# Altium schematic symbol library MGM240PB32VNA3.SchLib: 1 symbol
Pins are listed as number, name and electrical type; pins without a type are passive.

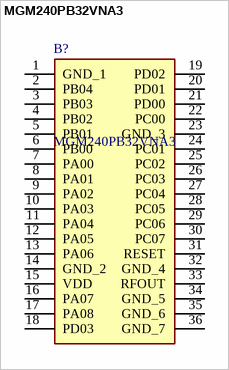
[diagram p0: symbol MGM240PB32VNA3]

## MGM240PB32VNA3
designator B?
Multiprotocol Modules Wireless bluetooth PCB module, Secure Boot with Root of Trust and Secure Loader(RTSL), 78 MHz, 20 dBm,; Manufacturer_Name: Silicon Labs; Geometry.Height: 2.35mm; Manufacturer_Part_Number: MGM240PB32VNA3; Mouser Part Number: 634-MGM240PB32VNA3; Mouser Price/Stock: https://www.mouser.co.uk/ProductDetail/Silicon-Labs/MGM240PB32VNA3?qs=vvQtp7zwQdP%252Bnz0yHc66VA%3D%3D; Arrow Part Number: MGM240PB32VNA3; Arrow Price/Stock: https://www.arrow.com/en/products/mgm240pb32vna3/silicon-labs?region=nac; Datasheet Link: https://www.silabs.com/documents/public/data-sheets/mgm240p-datasheet.pdf
footprint MGM240PB32VNA3
pins: 1 GND_1, 2 PB04, 3 PB03, 4 PB02, 5 PB01, 6 PB00, 7 PA00, 8 PA01, 9 PA02, 10 PA03, 11 PA04, 12 PA05, 13 PA06, 14 GND_2, 15 VDD, 16 PA07, 17 PA08, 18 PD03, 19 PD02, 20 PD01, 21 PD00, 22 PC00, 23 GND_3, 24 PC01, 25 PC02, 26 PC03, 27 PC04, 28 PC05, 29 PC06, 30 PC07, 31 RESET, 32 GND_4, 33 RFOUT, 34 GND_5, 35 GND_6, 36 GND_7